# Altium schematic symbol library KaisLissera-Schlib.SchLib: 37 symbols
Pins are listed as number, name and electrical type; pins without a type are passive.

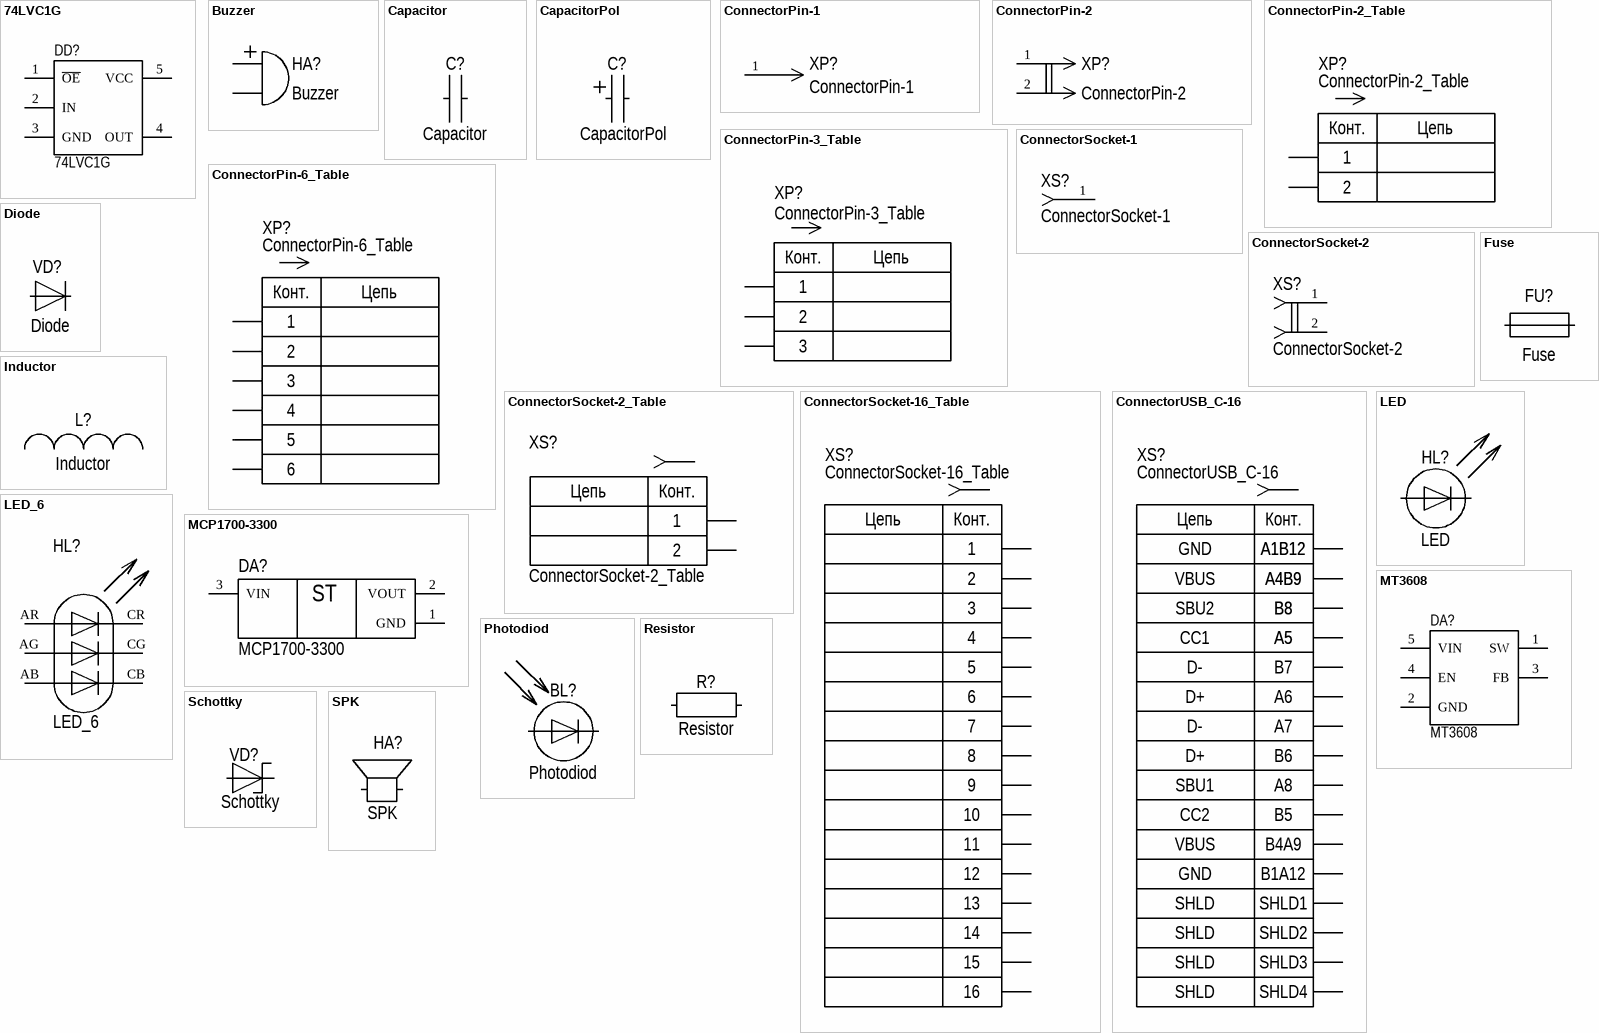
[diagram p0: symbols 74LVC1G to SPK]

## 74LVC1G
designator DD?
pins: 1 ~{OE} (power), 2 IN (power), 3 GND (power), 4 OUT (power), 5 VCC (power)

## Buzzer
designator HA?
pins: 1, 2

## Capacitor
designator C?
pins: 1, 2

## CapacitorPol
designator C?
pins: 1, 2

## ConnectorPin-1
designator XP?
pins: 1

## ConnectorPin-2
designator XP?
pins: 1, 2
2 alternate drawings of the same symbol

## ConnectorPin-2_Table
designator XP?
pins: 1, 2
2 alternate drawings of the same symbol
text: Конт.; Цепь

## ConnectorPin-3_Table
designator XP?
pins: 1, 2, 3
2 alternate drawings of the same symbol
text: Конт.; Цепь

## ConnectorPin-6_Table
designator XP?
pins: 1, 2, 3, 4, 5, 6
2 alternate drawings of the same symbol
text: Конт.; Цепь

## ConnectorSocket-1
designator XS?
pins: 1
2 alternate drawings of the same symbol

## ConnectorSocket-2
designator XS?
pins: 1, 2
2 alternate drawings of the same symbol

## ConnectorSocket-2_Table
designator XS?
pins: 1, 2
2 alternate drawings of the same symbol
text: Цепь; Конт.

## ConnectorSocket-16_Table
designator XS?
pins: 1, 2, 3, 4, 5, 6 62, 7, 8, 9, 10, 11, 12, 13, 14, 15, 16
2 alternate drawings of the same symbol
text: Цепь; Конт.

## ConnectorUSB_C-16
designator XS?
pins: A1B12 (power), A4B9 (power), A5, A6, A7, A8, B1A12 (power), B4A9 (power), B5, B6, B7, B8, SHLD1, SHLD2, SHLD3, SHLD4
2 alternate drawings of the same symbol
text: Цепь; Конт.; GND; VBUS; SBU2; CC1; D-; D+; SBU1; CC2; SHLD

## Diode
designator VD?
pins: 1 A, 2 C

## Fuse
designator FU?
pins: 1, 2

## Inductor
designator L?
pins: 1, 2
1 alternate drawing of the same symbol

## LED
designator HL?
pins: 1 A, 2 C
1 alternate drawing of the same symbol

## LED_6
designator HL?
pins: AB, AG, AR, CB, CG, CR
1 alternate drawing of the same symbol

## MCP1700-3300
designator DA?
pins: 1 GND (power), 2 VOUT (power), 3 VIN (power)
text: ST

## MT3608
designator DA?
ComponentLink1Description: Datasheet; ComponentLink1URL: https://prom-electric.ru/media/MT3608.pdf?ysclid=ln8xejapsi722194160
pins: 1 SW (power), 2 GND (power), 3 FB (power), 4 EN (power), 5 VIN (power)

## Photodiod
designator BL?
pins: 1 A, 2 C
1 alternate drawing of the same symbol

## Resistor
designator R?
pins: 1, 2

## Schottky
designator VD?
pins: 1 A, 2 C

## SPK
designator HA?
pins: 1, 2

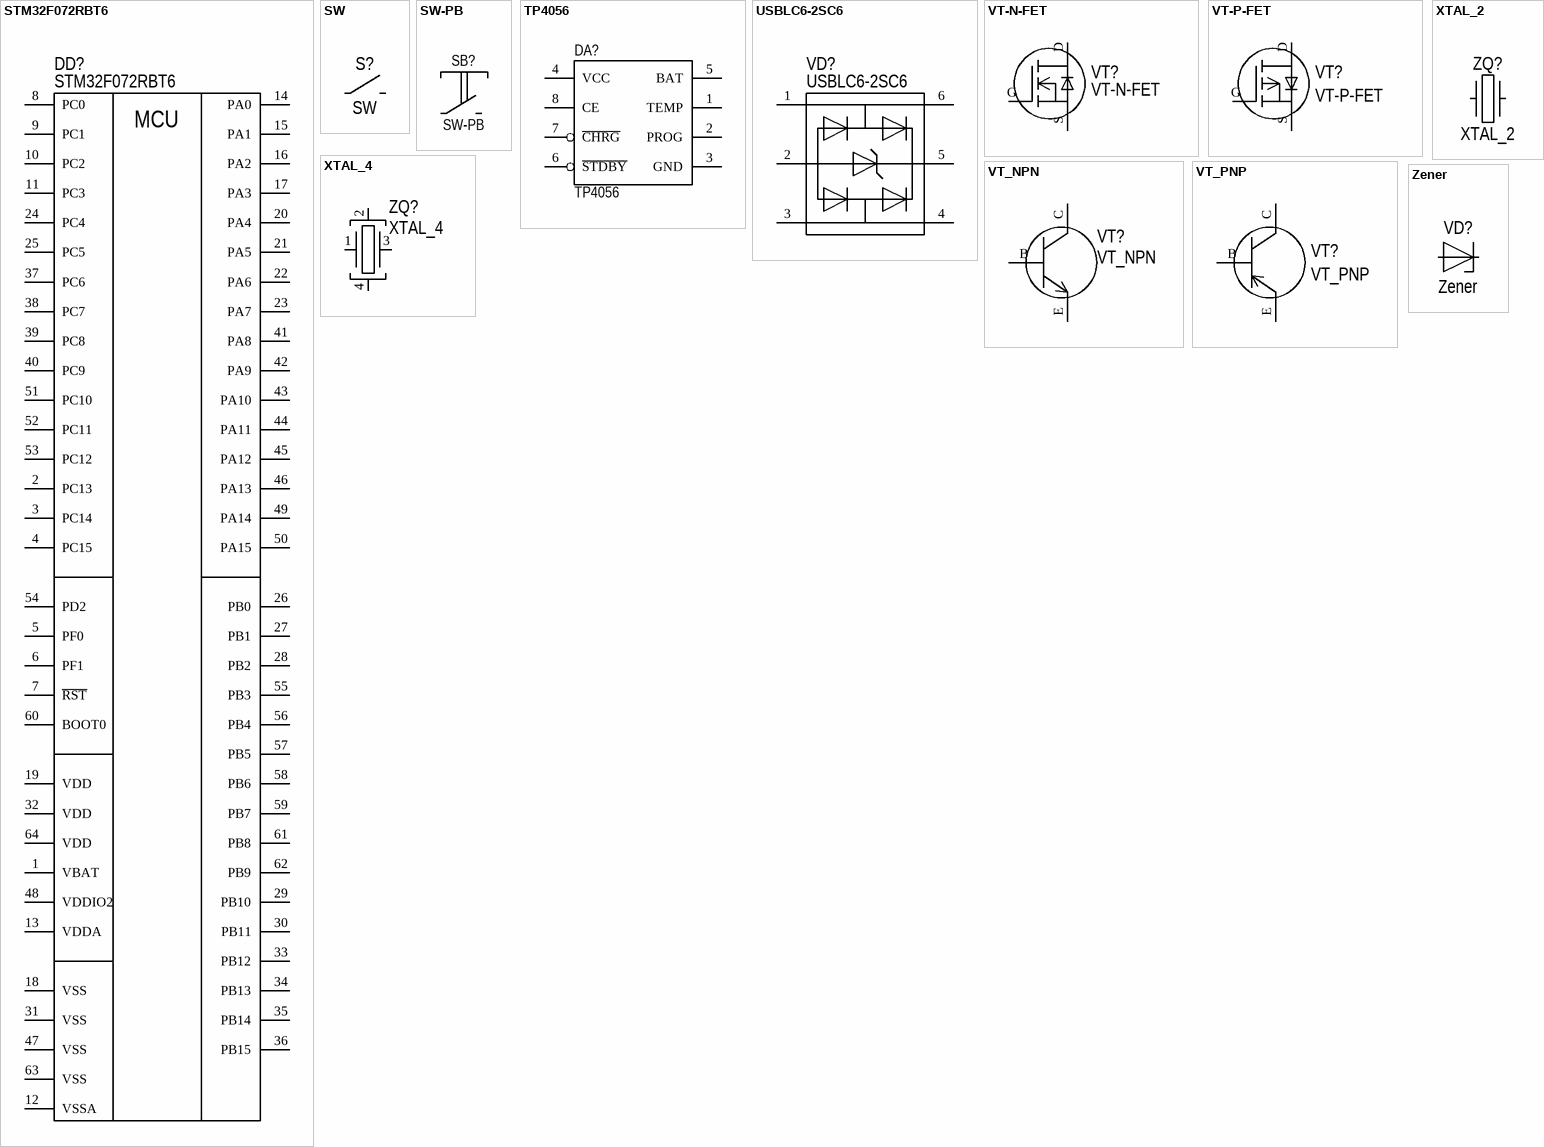
[diagram p1: symbols STM32F072RBT6 to Zener]

## STM32F072RBT6
designator DD?
ARM® Cortex®-M0 STM32 F0 Microcontroller IC 32-Bit 48MHz 128KB (128K x 8) FLASH 64-LQFP (10x10); PartNumber: STM32F103CBT6TR; Manufacturer: STMicroelectronics; Supply Voltage(Vcc) min (V): 2; Packing: Tape and Reel; I/Os (High Current): 37; Operating Frequency(F) (Processor speed) (MHz): 72; A/D Converter: 2x12-bit (10 Channel); Core: ARM Cortex-M3; Internal RAM Size (kB): 20; FLASH Size (Prog) (kB): 128; ComponentLink1Description: Manufacturer URL; ComponentLink2Description: Datasheet; PackageReference: LQFP48; DatasheetVersion: Rev. 16; ComponentLink1URL: http://www.st.com/web/en/home.html; PackageDescription: 48-Pin Low Profile Quad Flat Package, 7 x 7 mm Body, 0.5 mm Pitch; ComponentLink3URL: http://www.st.com/st-web-ui/static/active/en/resource/technical/document/datasheet/DM00058181.pdf; ComponentLink2URL: http://www.st.com/st-web-ui/static/active/en/resource/technical/document/datasheet/CD00161566.pdf; PackageVersion: Rev. 6, 06/2013; Mounting Technology: Surface Mount; ComponentLink3Description: Package Specification; Supplier: Rs; Supplier Part Number: 9074757P; Manufacturer Part Number: STM32F072RBT6; RoHS: Yes; Category: Microcontrollers; Stock: 2446; Pricing: 10=4,9, 100=4,245, 250=4,04, 500=3,63 (GBP); ComponentLink4URL: https://datasheet.ciiva.com/48492/dm00090510-48492217.pdf?src-supplier=Avnet; ComponentLink4Description: https://datasheet.ciiva.com/48492/dm00090510-48492217.pdf?src-supplier=Avnet
pins: 1 VBAT, 2 PC13, 3 PC14, 4 PC15, 5 PF0, 6 PF1, 7 ~{RST}, 8 PC0, 9 PC1, 10 PC2, 11 PC3, 12 VSSA, 13 VDDA, 14 PA0, 15 PA1, 16 PA2, 17 PA3, 18 VSS, 19 VDD, 20 PA4, 21 PA5, 22 PA6, 23 PA7, 24 PC4, 25 PC5, 26 PB0, 27 PB1, 28 PB2, 29 PB10, 30 PB11, 31 VSS, 32 VDD, 33 PB12, 34 PB13, 35 PB14, 36 PB15, 37 PC6, 38 PC7, 39 PC8, 40 PC9, 41 PA8, 42 PA9, 43 PA10, 44 PA11, 45 PA12, 46 PA13, 47 VSS, 48 VDDIO2, 49 PA14, 50 PA15, 51 PC10, 52 PC11, 53 PC12, 54 PD2, 55 PB3, 56 PB4, 57 PB5, 58 PB6, 59 PB7, 60 BOOT0, 61 PB8, 62 PB9, 63 VSS, 64 VDD
text: MCU

## SW
designator S?
pins: 1, 2

## SW-PB
designator SB?
pins: 1, 2

## TP4056
designator DA?
1A Standalone Linear Li-lon Battery Charger with Thermal / Regulation; ComponentLink1Description: Datasheet; ComponentLink1URL: https://robot-kit.ru/wa-data/public/blog/download/TP4056.pdf?ysclid=ln8x1l4v3j808138171
pins: 1 TEMP (power), 2 PROG (power), 3 GND (power), 4 VCC (power), 5 BAT (power), 6 ~{STDBY} (power), 7 ~{CHRG} (power), 8 CE (power)

## USBLC6-2SC6
designator VD?
ESD Suppressor Diode Arrays Uni-Dir 15kV@Air Gap/8kV@Contact Disc 6-Pin SOT-23 T/R; Manufacturer: STMicroelectronics; Direction: Unidirectional,Bidirectional; Value: 3.5pF; Operating Supply Voltage: 1.1V; Number of Channels: 2; Breakdown Voltage: 6V; Clamping Voltage: 17V; Reverse Standoff Voltage: 5.25V; Power Line Protection: Yes; Test Current: 1mA; Max Reverse Leakage Current: 150nA; Peak Pulse Current: 5A; Data Rate: 480Mbps; Number of Elements: 1; Working Voltage: 5V; Supplier: Rs; Supplier Part Number: 6247693P; Manufacturer Part Number: USBLC6-2SC6; RoHS: Yes; Category: TVS Diodes; Stock: 6950; Pricing: 10=101,409, 50=95,548, 100=90,505, 250=85,325, 500=81,1 (RUB); Mounting Technology: Surface Mount; Case/Package: SOT-23; Pins: 6; Min Operating Temperature: -40°C; Max Operating Temperature: 125°C; Packaging: Tape and Reel; Package Quantity: 3000; Termination: SMD/SMT; Number of Bidirectional Channels: 2; Min Breakdown Voltage: 6V; ESD Protection: Yes; Leakage Current: 150nA; Series: USB; Reverse Breakdown Voltage: 6V; Polarity: Unidirectional,Bidirectional; Max Breakdown Voltage: 6V; Clamping Voltage-Max: 17V; Max Repetitive Reverse Voltage (Vrrm): 5.25V; Length: 3.05mm; Width: 1.75mm; Height: 1.3mm; Depth: 1.75mm; Radiation Hardening: No; Lead Free: Lead Free; Reach SVHC Compliant: No; RoHS Compliant: Yes; ComponentLink1URL: https://datasheet.ciiva.com/1268/1690354-1268384.pdf?src-supplier=Element14; ComponentLink1Description: https://datasheet.ciiva.com/1268/1690354-1268384.pdf?src-supplier=Element14; ComponentLink2URL: https://datasheet.ciiva.com/4508/cd00050750-113117-4508433.pdf?src-supplier=Mouser; ComponentLink2Description: https://datasheet.ciiva.com/4508/cd00050750-113117-4508433.pdf?src-supplier=Mouser; ComponentLink3URL: https://datasheet.ciiva.com/15143/getdatasheetpartid-148465-15143789.pdf?src-supplier=Verical; ComponentLink3Description: https://datasheet.ciiva.com/15143/getdatasheetpartid-148465-15143789.pdf?src-supplier=Verical; ComponentLink4URL: https://datasheet.ciiva.com/16200/cd00050750-16200026.pdf?src-supplier=Future+Electronics; ComponentLink4Description: https://datasheet.ciiva.com/16200/cd00050750-16200026.pdf?src-supplier=Future+Electronics; ComponentLink5URL: https://datasheet.ciiva.com/41444/001184109-da-01-en-ic-esd-protecti-usblc6-2sc6-sot-23-6-stm-41444156.pdf?src-supplier=Conrad; ComponentLink5Description: https://datasheet.ciiva.com/41444/001184109-da-01-en-ic-esd-protecti-usblc6-2sc6-sot-23-6-stm-41444156.pdf?src-supplier=Conrad
pins: 1 IO1, 2 GND, 3 IO2, 4 IO2, 5 VCC, 6 IO1

## VT-N-FET
designator VT?
pins: D, G, S

## VT-P-FET
designator VT?
pins: D, G, S

## VT_NPN
designator VT?
pins: B, C, E

## VT_PNP
designator VT?
pins: B, C, E

## XTAL_2
designator ZQ?
pins: 1, 2

## XTAL_4
designator ZQ?
pins: 1, 2 (power), 3, 4 (power)

## Zener
designator VD?
pins: 1 A, 2 C